# Altium schematic symbol library LC-04T.SchLib: 1 symbol
Pins are listed as number, name and electrical type; pins without a type are passive.

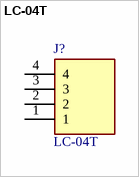
[diagram p0: symbol LC-04T]

## LC-04T
designator J?
Wire-To-Board Connector, Shrouded, Top Entry, LC Series, Crimp, Header, 4, 5.08 mm RoHS Compliant: Yes; Manufacturer_Name: JST (JAPAN SOLDERLESS TERMINALS); Geometry.Height: 11.5mm; Manufacturer_Part_Number: LC-04T; Mouser Part Number: *; Mouser Price/Stock: *; Arrow Part Number: LC-04T; Arrow Price/Stock: https://www.arrow.com/en/products/lc-04t/jst-manufacturing; Datasheet Link: https://componentsearchengine.com/Datasheets/2/LC-04T.pdf
footprint LC04T
pins: 1, 2, 3, 4